# Altium footprint library TLR2B10DR007.PcbLib: 1 footprints
Each footprint in its own frame and in the unit in brackets; x right, y up, seen from the top. Pads: shape width x height; smd on the part's side, far side on the other; paste and mask are expansions set on the pad; w line width, h text height; cw(c..) or ccw(c..) is an arc to the next point about the centre after c.
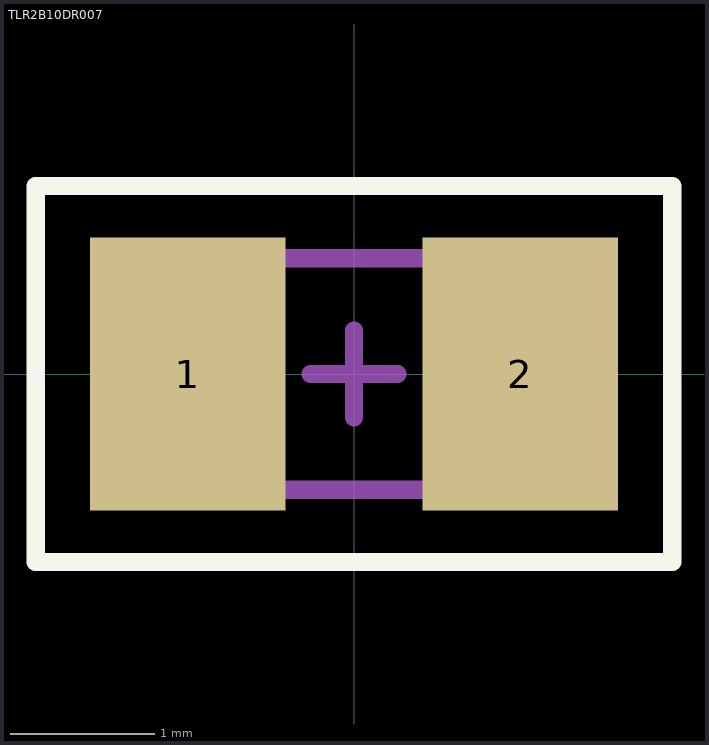
[diagram p0: the footprint, top view; thin cyan lines are the x and y axes]

## TLR2B10DR007 [mm]
pads (2):
  rect 1.35x1.89 smd mask+0.051: 1(-1.15,0) 2(1.15,0)
Top Overlay:
  lines w0.127: -2.2,-1.3 2.2,-1.3 2.2,1.3 -2.2,1.3 -2.2,-0.1 -2.2,-1.3
Top Designator:
  text ".Designator" at -7.618,-0.508 h1.52
Mechanical 13:
  lines w0.127: -1.6,-0.8 1.6,-0.8 1.6,0.8 -1.6,0.8 -1.6,-0.8
Mechanical 15:
  lines w0.127: -0.3,0 0,0 ; 0,-0.3 0,0 ; 0,0.3 0,0 ; 0.3,0 0,0
3D body "c-2176117-8-ba-3d.stp": height 0.6, standoff 0, extent -1.6,-0.8 1.6,0.8